# EAGLE library part PMGD130UN (library nxp_60)
20 V, dual N-channel Trench MOSFET AAL Eindhoven MK
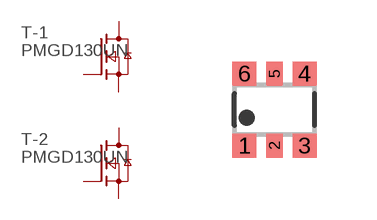
[diagram p78: symbol with the pads of SOT363; footprint SOT363]

Designator prefix T; gates -1=N-MOSFET -2=N-MOSFET

## PMGD130UN  [SOT363]
1  -1:S  pas
2  -1:G  pas
3  -2:D  pas
4  -2:S  pas
5  -2:G  pas
6  -1:D  pas

## Footprint SOT363 (pad centres in mm)
SOT363 Plastic surface-mounted package; 6 leads JEDEC: -- IEC: -- JEITA: SC-88
smd 0.6 x 0.6: 1 -0.75,-0.9; 3 0.75,-0.9; 4 0.75,0.9; 6 -0.75,0.9
smd 0.4 x 0.6: 2 0,-0.9; 5 0,0.9